# EAGLE library part 74LCX138MTCX (library Fairchild_By_element14_Batch_1)
1-of-8 Decoder
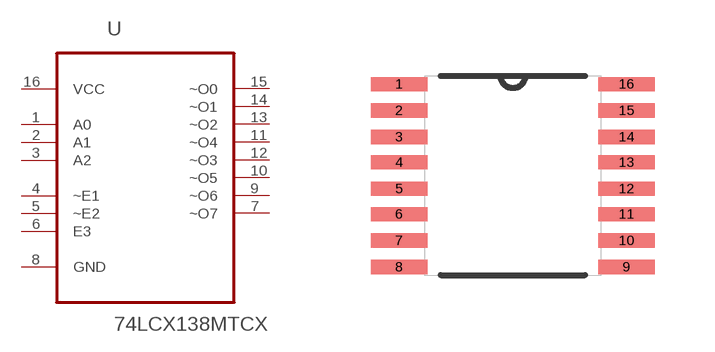
[diagram p81: symbol with the pads of SOP65P640X110-16N; footprint SOP65P640X110-16N]

Designator prefix U

## 74LCX138MTCX (MPN: 74LCX138MTCX; OC_FARNELL: 1607673; OC_NEWARK: 78K6289; PACKAGE: TSSOP-16; SUPPLIER: FAIRCHILD SEMICONDUCTOR)  [SOP65P640X110-16N]
1  A0  in
2  A1  in
3  A2  in
4  ~E1  in
5  ~E2  in
6  E3  in
7  ~O7  out
8  GND  pas
9  ~O6  out
10  ~O5  out
11  ~O4  out
12  ~O3  out
13  ~O2  out
14  ~O1  out
15  ~O0  out
16  VCC  pwr

## Footprint SOP65P640X110-16N (pad centres in mm)
smd 1.422 x 0.356: 1 -2.845,2.286; 2 -2.845,1.626; 3 -2.845,0.965; 4 -2.845,0.33; 5 -2.845,-0.33; 6 -2.845,-0.965; 7 -2.845,-1.626; 8 -2.845,-2.286; 9 2.845,-2.286; 10 2.845,-1.626; 11 2.845,-0.965; 12 2.845,-0.33; 13 2.845,0.33; 14 2.845,0.965; 15 2.845,1.626; 16 2.845,2.286